# Altium schematic symbol library Componentes_base.SchLib: 431 symbols (part 9 of 12)
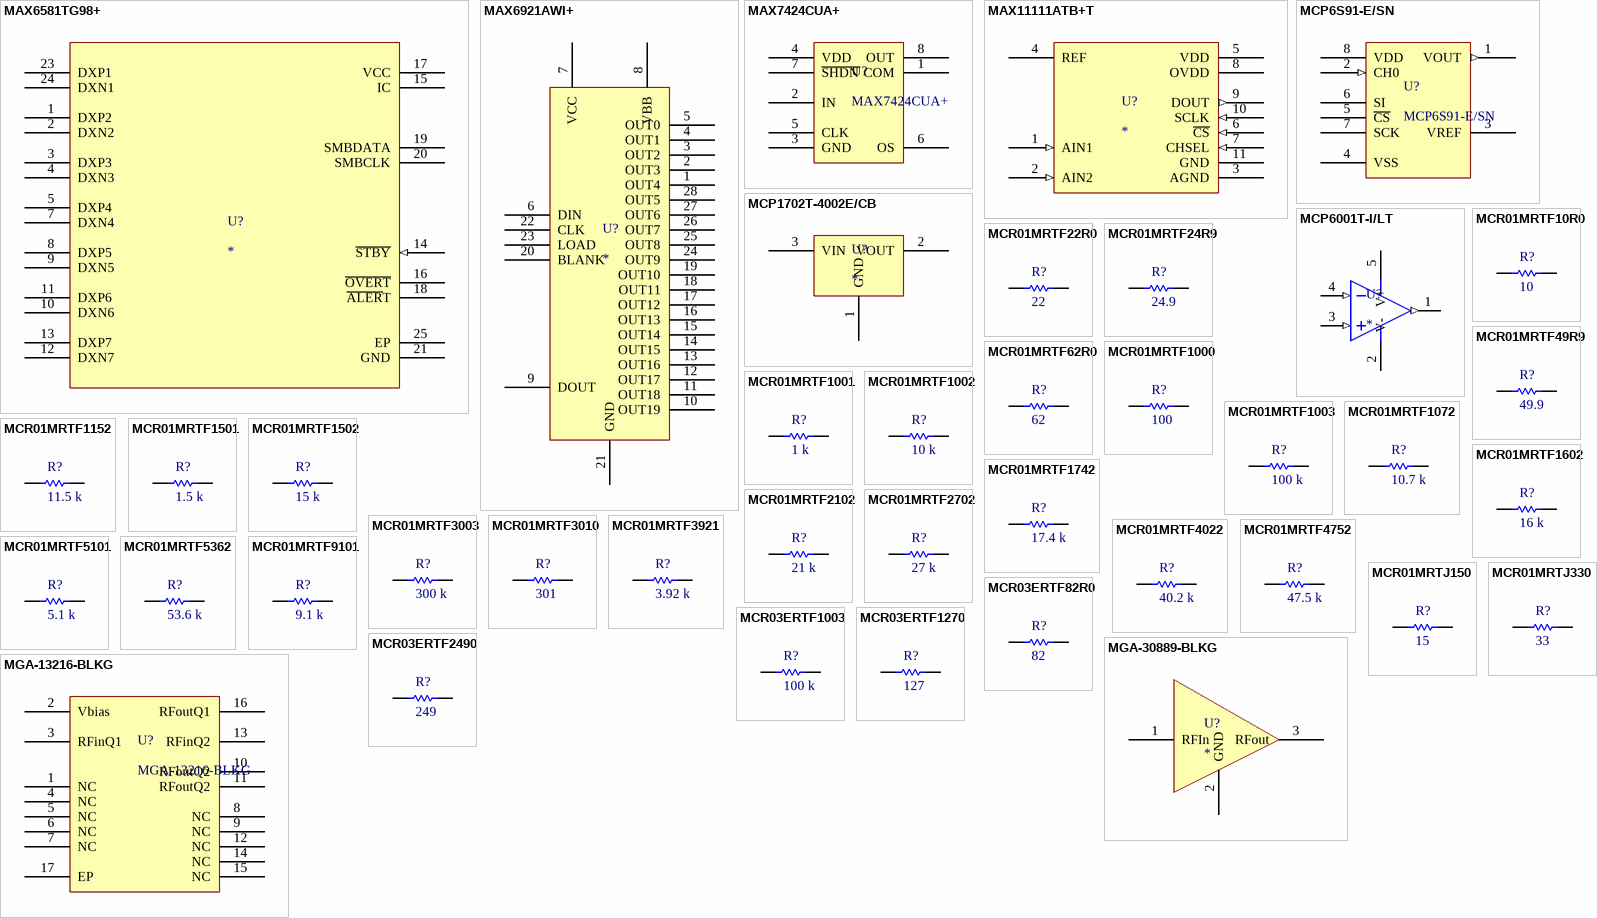
[diagram p22: symbols MAX6581TG98+ to MGA-30889-BLKG]

## MCR03ERTF1270
designator R?, comment 127
RES 127 OHM 1/10W 1% 0603 SMD; Manufacturer: Rohm Semiconductor; Manufacturer Part Number: MCR03ERTF1270; Power (Watts): 0.1W, 1/10W; Temperature Coefficient: ±100ppm/°C; Supplier 1: Digi-Key; Supplier Part Number 1: RHM127CFCT-ND; RoHS: RoHS Compliant; Category: Resistors; Stock 1: 2110; Pricing 1: 1=0.09, 10=0.01, 25=0.0072, 100=0.0041, 250=0.00312, 500=0.00252, 1000=0.00185 (EUR); Packaging: Cut Tape (CT); Resistance (Ohms): 127; Tolerance: ±1%; Composition: Thick Film; Features: -; Operating Temperature: -55°C ~ 155°C; Package / Case: 0603 (1608 Metric); Supplier Device Package: 0603 (1608 Metric); Size / Dimension: 0.063" L x 0.031" W (1.60mm x 0.80mm); Height: 0.022" (0.55mm); Number of Terminations: 2; ComponentLink1URL: http://rohmfs.rohm.com/en/products/databook/datasheet/passive/resistor/chip_resistor/mcr_g.pdf; ComponentLink1Description: http://rohmfs.rohm.com/en/products/databook/datasheet/passive/resistor/chip_resistor/mcr_g.pdf
footprint RESC1005X04L (Chip Resistor, 2-Leads, Body 1,00x0,50mm, IPC High Density)
pins: 1, 2

## MCR03ERTF2490
designator R?, comment 249
RES 249 OHM 1/10W 1% 0603 SMD; Manufacturer: Rohm Semiconductor; Manufacturer Part Number: MCR03ERTF2490; Power (Watts): 0.1W, 1/10W; Temperature Coefficient: ±100ppm/°C; Supplier 1: Digi-Key; Supplier Part Number 1: RHM249CFCT-ND; RoHS: RoHS Compliant; Category: Resistors; Stock 1: 29192; Pricing 1: 1=0.09, 10=0.01, 25=0.0072, 100=0.0041, 250=0.00312, 500=0.00252, 1000=0.00185 (EUR); Packaging: Cut Tape (CT); Resistance (Ohms): 249; Tolerance: ±1%; Composition: Thick Film; Features: -; Operating Temperature: -55°C ~ 155°C; Package / Case: 0603 (1608 Metric); Supplier Device Package: 0603 (1608 Metric); Size / Dimension: 0.063" L x 0.031" W (1.60mm x 0.80mm); Height: 0.022" (0.55mm); Number of Terminations: 2; ComponentLink1URL: http://rohmfs.rohm.com/en/products/databook/datasheet/passive/resistor/chip_resistor/mcr_g.pdf; ComponentLink1Description: http://rohmfs.rohm.com/en/products/databook/datasheet/passive/resistor/chip_resistor/mcr_g.pdf
pins: 1, 2

## MGA-13216-BLKG
designator U?
IC AMP LNA GAAS MMIC 16QFN; Manufacturer: Broadcom Limited; Frequency: 1.5GHz ~ 2.5GHz; P1dB: 23.6dB; Gain: 35.8dB; Noise Figure: 0.61dB; RF Type: CDMA, GSM, WCDMA; Voltage - Supply: 5V; Current - Supply: 122mA; Test Frequency: 1.95GHz; Supplier 1: Digi-Key; Manufacturer Part Number: MGA-13216-BLKG; RoHS: RoHS Compliant; Category: RF/IF and RFID; Stock 1: 9; Pricing 1: 1=5.28, 10=4.748, 100=3.8899, 500=3.31134, 1000=2.7927, 2500=2.65306 (EUR); Packaging: Cut Strip; Part Status: Active; Package / Case: 16-VQFN Exposed Pad; Supplier Device Package: 16-QFN (4x4); ComponentLink1URL: https://docs.broadcom.com/docs/AV02-2878EN; ComponentLink1Description: https://docs.broadcom.com/docs/AV02-2878EN; Supplier Part Number 1: 516-3079-ND
footprint QFN65P400X400X86_HS-17N-Avago (QFN, 16-Leads, Body 4,00x4,00mm, Pitch 0,65mm, Thermal Pad 2,70x2,70mm, IPC Medium Density)
pins: 1 NC, 2 Vbias, 3 RFinQ1, 4 NC, 5 NC, 6 NC, 7 NC, 8 NC, 9 NC, 10 RFoutQ2, 11 RFoutQ2, 12 NC, 13 RFinQ2, 14 NC, 15 NC, 16 RFoutQ1, 17 EP

## MGA-30889-BLKG
designator U?
RF Amplifier 37dBm Gain Block Low Band; Manufacturer: Avago Technologies; Manufacturer Part Number: MGA-30889-BLKG; Operating Frequency: 40 MHz to 2.6 GHz; Gain: 15.7 dB; NF - Noise Figure: 2 dB; OIP3 - Third Order Intercept: 36 dBm; Operating Supply Current: 65 mA; Operating Supply Voltage: 5 V; P1dB - Compression Point: 20.3 dBm; Pd - Power Dissipation: 470 mW; Test Frequency: 1.95 GHz; Frequency: 40MHz ~ 2.6GHz; P1dB: 20.3dBm (107.2mW); Noise Figure: 2dB; RF Type: General Purpose; Voltage - Supply: 5V; Current - Supply: 65mA; Supplier 1: Mouser; RoHS: RoHS Compliant; Category: RF Amplifier; Stock 1: 0; Pricing 1: 1=2.74, 10=2.20, 100=1.86, 200=1.81, 500=1.62, 1000=1.36, 2000=1.33 (EUR); Package/Case: SOT-89-3; Packaging: Cut Tape; Type: Gain Block Amplifier; Brand: Avago Technologies; Mounting Style: SMD/SMT; Maximum Operating Temperature: + 150 C; Product Category: RF-Amplifier; Standard Pack Qty: 100; RoHS - Mouser: Y; Minimum Order Quantity: 1; Reeling: False; ComponentLink1URL: http://www.mouser.com/ds/2/38/AV02-2250EN_DS_MGA-30889_2013-11-11-476270.pdf; ComponentLink1Description: http://www.mouser.com/ds/2/38/AV02-2250EN_DS_MGA-30889_2013-11-11-476270.pdf; Supplier 2: Digi-Key; Stock 2: 1977; Pricing 2: 1=2.78, 10=2.5, 25=2.3672 (EUR); Package / Case: TO-243AA; Supplier Device Package: SOT-89-3; ComponentLink2URL: http://www.avagotech.com/docs/AV02-2250EN; ComponentLink2Description: http://www.avagotech.com/docs/AV02-2250EN; Supplier Part Number 1: 630-MGA-30889-BLKG; Supplier Part Number 2: 516-2445-1-ND
footprint SOT89-150P409X160-3L (SOT89, 3-Leads, Body 4,50x2,45mm, Pitch 1,50mm, Lead Span 4,1mm, IPC High Density)
pins: 1 RFIn, 2 GND, 3 RFout

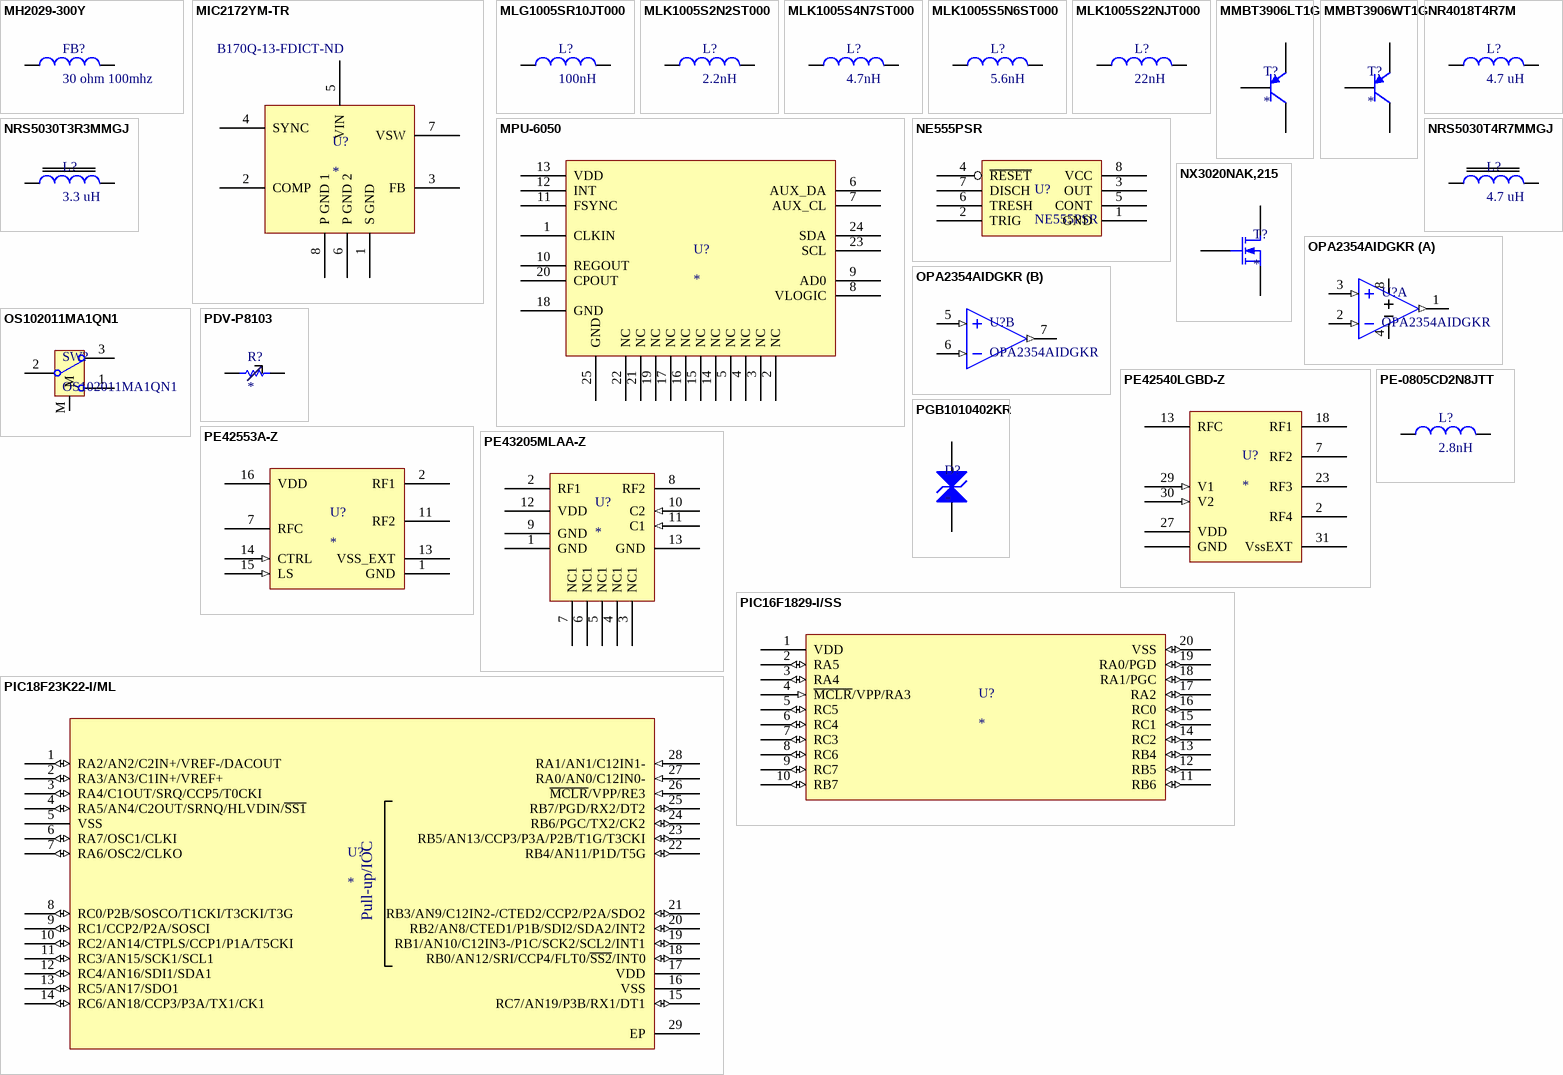
[diagram p9: symbols MH2029-300Y to PIC18F23K22-I/ML]

## MH2029-300Y
designator FB?, comment 30 ohm 100mhz
FERRITE BEAD 30 OHM 0805 1LN; Manufacturer: Bourns Inc.; Manufacturer Part Number: MH2029-300Y; Filter Type: Power, Signal Line; Number of Lines: 1; Impedance @ Frequency: 30 Ohm @ 100MHz; Current Rating (Max): 3A; DC Resistance (DCR) (Max): 25 mOhm; Supplier 1: Digi-Key; RoHS: RoHS Compliant; Category: Filters; Stock 1: 66775; Pricing 1: 1=0.09, 10=0.058, 25=0.0532, 50=0.0476, 100=0.0351, 250=0.02548, 500=0.02336, 1000=0.02017 (EUR); Packaging: Cut Tape (CT); Part Status: Active; Ratings: -; Operating Temperature: -55°C ~ 125°C; Package / Case: 0805 (2012 Metric); Mounting Type: Surface Mount; Height (Max): 0.043" (1.10mm); Size / Dimension: 0.079" L x 0.047" W (2.00mm x 1.20mm); ComponentLink1URL: http://www.bourns.com/docs/Product-Datasheets/mh.pdf; ComponentLink1Description: http://www.bourns.com/docs/Product-Datasheets/mh.pdf; Supplier Part Number 1: MH2029-300YCT-ND
footprint 0805 Ind (Chip Capacitor, 2-Leads, Body 2,00x1,25mm, IPC Medium Density)
pins: 1, 2

## MIC2172YM-TR
designator U?  Supplier Part Number 1: B170Q-13-FDICT-ND
IC REG MULT CONFIG INV ISO 8SOIC; Manufacturer: Diodes Incorporated; Manufacturer Part Number: B170Q-13-F; Diode Type: Schottky; Voltage - DC Reverse (Vr) (Max): 70V; Current - Average Rectified (Io): 1A; Voltage - Forward (Vf) (Max) @ If: 790mV @ 1A; Speed: Fast Recovery =< 500ns, > 200mA (Io); Capacitance @ Vr, F: 80pF @ 4V, 1MHz; Supplier 1: Digi-Key; RoHS: RoHS Compliant; Category: Discrete Semiconductor Products; Stock 1: 4978; Pricing 1: 1=0.34, 10=0.278, 100=0.1897, 500=0.14222, 1000=0.10666 (EUR); Packaging: Cut Tape (CT); Part Status: Active; Reverse Recovery Time (trr): -; Current - Reverse Leakage @ Vr: -; Mounting Type: Surface Mount; Package / Case: DO-214AC, SMA; Supplier Device Package: SMA; Operating Temperature - Junction: -65°C ~ 155°C; ComponentLink1URL: http://www.diodes.com/_files/datasheets/B170Q-B1100Q.pdf; ComponentLink1Description: http://www.diodes.com/_files/datasheets/B170Q-B1100Q.pdf
footprint SOIC127P600X175-8L R-PDSO-G8 (SOIC, 8-Leads, Body 4,90x3,90mm, Pitch 1,27mm, IPC High Density)
pins: 1 S GND, 2 COMP, 3 FB, 4 SYNC, 5 VIN, 6 P GND 2, 7 VSW, 8 P GND 1

## MLG1005SR10JT000
designator L?, comment 100nH
FIXED IND 100NH 200MA 2 OHM SMD; Manufacturer: TDK Corporation; Manufacturer Part Number: MLG1005SR10JT000; Type: Multilayer; Material - Core: Non-Magnetic; Tolerance: ±5%; Shielding: Unshielded; DC Resistance (DCR): 2 Ohm Max; Q @ Freq: 8 @ 100MHz; Frequency - Self Resonant: 700MHz; Supplier 1: Digi-Key; RoHS: RoHS Compliant; Category: Inductors, Coils, Chokes; Stock 1: 17764; Pricing 1: 1=0.09, 10=0.046, 100=0.0303, 500=0.02524, 1000=0.02119, 2500=0.01817 (EUR); Packaging: Cut Tape (CT); Part Status: Active; Inductance: 100nH; Current Rating: 200mA; Current - Saturation: -; Ratings: -; Operating Temperature: -55°C ~ 125°C; Mounting Type: Surface Mount; Package / Case: 0402 (1005 Metric); Supplier Device Package: 0402 (1005 Metric); Size / Dimension: 0.039" L x 0.020" W (1.00mm x 0.50mm); Height - Seated (Max): 0.022" (0.55mm); ComponentLink1URL: https://product.tdk.com/info/en/catalog/datasheets/inductor_commercial_high-frequency_mlg1005s_en.pdf; ComponentLink1Description: https://product.tdk.com/info/en/catalog/datasheets/inductor_commercial_high-frequency_mlg1005s_en.pdf; Supplier Part Number 1: 445-3071-1-ND
footprint INDC1005X06L (Chip Inductor, 2-Leads, Body 1,00x0,50mm, IPC High Density)
pins: 1, 2

## MLK1005S2N2ST000
designator L?, comment 2.2nH
FIXED IND 2.2NH 500MA 180 MOHM; Manufacturer: TDK Corporation; Manufacturer Part Number: MLK1005S2N2ST000; Type: Multilayer; Material - Core: Non-Magnetic; Tolerance: ±0.3nH; Shielding: Unshielded; DC Resistance (DCR): 180 mOhm Max; Q @ Freq: 6 @ 100MHz; Frequency - Self Resonant: 8GHz; Resistance (Ohms): 180; Power (Watts): 0.1W, 1/10W; Temperature Coefficient: ±200ppm/°C; Supplier 1: Digi-Key; RoHS: RoHS Compliant; Category: Inductors, Coils, Chokes; Stock 1: 20000; Pricing 1: 10000=0.01404, 30000=0.0136, 50000=0.01316, 100000=0.01273 (EUR); Packaging: Tape & Reel (TR); Part Status: Active; Inductance: 2.2nH; Current Rating: 500mA; Current - Saturation: -; Ratings: -; Operating Temperature: -55°C ~ 125°C; Mounting Type: Surface Mount; Package / Case: 0402 (1005 Metric); Supplier Device Package: 0402 (1005 Metric); Size / Dimension: 0.039" L x 0.020" W (1.00mm x 0.50mm); Height - Seated (Max): 0.024" (0.60mm); ComponentLink1URL: https://product.tdk.com/info/en/catalog/datasheets/inductor_commercial_high-frequency_mlk1005_en.pdf; ComponentLink1Description: https://product.tdk.com/info/en/catalog/datasheets/inductor_commercial_high-frequency_mlk1005_en.pdf; Supplier Part Number 1: 445-1459-2-ND; Composition: Thick Film; Features: Automotive AEC-Q200; Failure Rate: -; ComponentLink2URL: http://industrial.panasonic.com/www-cgi/jvcr13pz.cgi?E+PZ+3+AOA0001+ERJ2GEJ181X+7+WW; ComponentLink2Description: http://industrial.panasonic.com/www-cgi/jvcr13pz.cgi?E+PZ+3+AOA0001+ERJ2GEJ181X+7+WW
footprint RESC1005X04L (Chip Resistor, 2-Leads, Body 1,00x0,50mm, IPC High Density)
pins: 1, 2

## MLK1005S4N7ST000
designator L?, comment 4.7nH
FIXED IND 4.7NH 400MA 280 MOHM; Manufacturer: TDK Corporation; Manufacturer Part Number: MLK1005S4N7ST000; Type: Multilayer; Material - Core: Non-Magnetic; Tolerance: ±0.3nH; Shielding: Unshielded; DC Resistance (DCR): 280 mOhm Max; Q @ Freq: 7 @ 100MHz; Frequency - Self Resonant: 6GHz; Supplier 1: Digi-Key; RoHS: RoHS Compliant; Category: Inductors, Coils, Chokes; Stock 1: 43793; Pricing 1: 1=0.09, 10=0.046, 100=0.0303, 500=0.02524, 1000=0.02119, 2500=0.01817 (EUR); Packaging: Cut Tape (CT); Part Status: Active; Inductance: 4.7nH; Current Rating: 400mA; Current - Saturation: -; Ratings: -; Operating Temperature: -55°C ~ 125°C; Mounting Type: Surface Mount; Package / Case: 0402 (1005 Metric); Supplier Device Package: 0402 (1005 Metric); Size / Dimension: 0.039" L x 0.020" W (1.00mm x 0.50mm); Height - Seated (Max): 0.024" (0.60mm); ComponentLink1URL: https://product.tdk.com/info/en/catalog/datasheets/inductor_commercial_high-frequency_mlk1005_en.pdf; ComponentLink1Description: https://product.tdk.com/info/en/catalog/datasheets/inductor_commercial_high-frequency_mlk1005_en.pdf; Supplier Part Number 1: 445-1463-1-ND
footprint INDC1005X06L (Chip Inductor, 2-Leads, Body 1,00x0,50mm, IPC High Density)
pins: 1, 2

## MLK1005S5N6ST000
designator L?, comment 5.6nH
FIXED IND 5.6NH 400MA 300 MOHM; Manufacturer: TDK Corporation; Manufacturer Part Number: MLK1005S5N6ST000; Type: Multilayer; Material - Core: Non-Magnetic; Tolerance: ±0.3nH; Shielding: Unshielded; DC Resistance (DCR): 300 mOhm Max; Q @ Freq: 7 @ 100MHz; Frequency - Self Resonant: 5.7GHz; Supplier 1: Digi-Key; RoHS: RoHS Compliant; Category: Inductors, Coils, Chokes; Stock 1: 426961; Pricing 1: 1=0.09, 10=0.046, 100=0.0303, 500=0.02524, 1000=0.02119, 2500=0.01817 (EUR); Packaging: Cut Tape (CT); Part Status: Active; Inductance: 5.6nH; Current Rating: 400mA; Current - Saturation: -; Ratings: -; Operating Temperature: -55°C ~ 125°C; Mounting Type: Surface Mount; Package / Case: 0402 (1005 Metric); Supplier Device Package: 0402 (1005 Metric); Size / Dimension: 0.039" L x 0.020" W (1.00mm x 0.50mm); Height - Seated (Max): 0.024" (0.60mm); ComponentLink1URL: https://product.tdk.com/info/en/catalog/datasheets/inductor_commercial_high-frequency_mlk1005_en.pdf; ComponentLink1Description: https://product.tdk.com/info/en/catalog/datasheets/inductor_commercial_high-frequency_mlk1005_en.pdf; Supplier Part Number 1: 445-8651-1-ND
footprint INDC1005X06L (Chip Inductor, 2-Leads, Body 1,00x0,50mm, IPC High Density)
pins: 1, 2

## MLK1005S22NJT000
designator L?, comment 22nH
FIXED IND 22NH 200MA 700 MOHM
footprint RESC1005X04L (Chip Resistor, 2-Leads, Body 1,00x0,50mm, IPC High Density)
pins: 1, 2

## MMBT3906LT1G
designator T?
Transistors Bipolar - BJT 200mA 40V PNP; Manufacturer: ON Semiconductor; Manufacturer Part Number: MMBT3906LT1G; Collector- Base Voltage VCBO: - 40 V; Configuration: Single; Emitter- Base Voltage VEBO: 5 V; Collector-Emitter Saturation Voltage: - 0.4 V; DC Collector/Base Gain hFE Min: 60; Gain Bandwidth Product fT: 250 MHz; Maximum DC Collector Current: 0.2 A; Maximum Power Dissipation: 225 mW; Vce Saturation (Max) @ Ib, Ic: 400mV @ 5mA, 50mA; DC Current Gain (hFE) (Min) @ Ic, Vce: 100 @ 10mA, 1V; Power - Max: 300mW; Frequency - Transition: 250MHz; Supplier 1: Mouser; Supplier Part Number 1: 863-MMBT3906LT1G; RoHS: RoHS Compliant; Category: Transistors Bipolar - BJT; Stock 1: 146718; Pricing 1: 1=0.095, 10=0.087, 100=0.030, 1000=0.021, 3000=0.016, 9000=0.014, 24000=0.012, 45000=0.010, 99000=0.009 (EUR); Collector- Emitter Voltage VCEO Max: - 40 V; Package/Case: SOT-23-3; Packaging: Reel; Series: MMBT3906L; Brand: ON Semiconductor; Mounting Style: SMD/SMT; Transistor Polarity: PNP; Maximum Operating Temperature: + 150 C; Minimum Operating Temperature: - 55 C; Product Category: Transistors Bipolar- General Purpose; Standard Pack Qty: 3000; RoHS - Mouser: Y; Minimum Order Quantity: 1; Reeling: True; ComponentLink1URL: http://www.onsemi.com/pub/Collateral/MMBT3906LT1-D.PDF; ComponentLink1Description: http://www.onsemi.com/pub/Collateral/MMBT3906LT1-D.PDF; Supplier 2: Digi-Key; Supplier Part Number 2: MMBT3906LT1GOSCT-ND; Stock 2: 53767; Pricing 2: 1=0.11, 10=0.097, 25=0.0884, 100=0.0636, 250=0.03748, 500=0.0311, 1000=0.02121 (EUR); Transistor Type: PNP; Current - Collector (Ic) (Max): 200mA; Voltage - Collector Emitter Breakdown (Max): 40V; Current - Collector Cutoff (Max): -; Mounting Type: Surface Mount; Package / Case: TO-236-3, SC-59, SOT-23-3; Supplier Device Package: SOT-23-3 (TO-236); ComponentLink2URL: http://www.onsemi.com/pub_link/Collateral/MMBT3906LT1-D.PDF; ComponentLink2Description: http://www.onsemi.com/pub_link/Collateral/MMBT3906LT1-D.PDF
footprint SOT95P230X110-3N (SOT23, 3-Leads, Body 2,90x2,30mm, Pitch 0,95mm, IPC Medium Density)
pins: 1 B, 2 E, 3 C

## MMBT3906WT1G
designator T?
Transistors Bipolar - BJT 200mA 40V PNP; Manufacturer: ON Semiconductor; Manufacturer Part Number: MMBT3906WT1G; Collector- Base Voltage VCBO: - 40 V; Configuration: Single; Emitter- Base Voltage VEBO: 5 V; Collector-Emitter Saturation Voltage: - 0.4 V; DC Collector/Base Gain hFE Min: 60; Gain Bandwidth Product fT: 250 MHz; Maximum DC Collector Current: 0.2 A; Maximum Power Dissipation: 150 mW; Vce Saturation (Max) @ Ib, Ic: 400mV @ 5mA, 50mA; DC Current Gain (hFE) (Min) @ Ic, Vce: 100 @ 10mA, 1V; Power - Max: 150mW; Frequency - Transition: 250MHz; Supplier 1: Mouser; Supplier Part Number 1: 863-MMBT3906WT1G; RoHS: RoHS Compliant; Category: Transistors Bipolar - BJT; Stock 1: 23563; Pricing 1: 1=0.147, 10=0.121, 100=0.042, 1000=0.029, 3000=0.022, 9000=0.019, 24000=0.017, 45000=0.015, 99000=0.013 (EUR); Collector- Emitter Voltage VCEO Max: - 40 V; Package/Case: SC-70-3; Packaging: Reel; Series: MMBT3906W; Brand: ON Semiconductor; Mounting Style: SMD/SMT; Transistor Polarity: PNP; Maximum Operating Temperature: + 150 C; Minimum Operating Temperature: - 55 C; Product Category: Transistors Bipolar- General Purpose; Standard Pack Qty: 3000; RoHS - Mouser: Y; Minimum Order Quantity: 1; Reeling: True; ComponentLink1URL: http://www.mouser.com/ds/2/308/MMBT3904WT1-D-110229.pdf; ComponentLink1Description: http://www.mouser.com/ds/2/308/MMBT3904WT1-D-110229.pdf; Supplier 2: Digi-Key; Supplier Part Number 2: MMBT3906WT1GOSCT-ND; Stock 2: 38938; Pricing 2: 1=0.15, 10=0.136, 25=0.1236, 100=0.0889, 250=0.05236, 500=0.04344, 1000=0.02963 (EUR); Transistor Type: PNP; Current - Collector (Ic) (Max): 200mA; Voltage - Collector Emitter Breakdown (Max): 40V; Current - Collector Cutoff (Max): -; Mounting Type: Surface Mount; Package / Case: SC-70, SOT-323; Supplier Device Package: SC-70-3 (SOT323); ComponentLink2URL: http://www.onsemi.com/pub_link/Collateral/MMBT3904WT1-D.PDF; ComponentLink2Description: http://www.onsemi.com/pub_link/Collateral/MMBT3904WT1-D.PDF
footprint SC70P220X100-3L (SC70 3-Leads, Body 2,00x2,20mm, Pitch 0,95mm, IPC High Density)
pins: 1 B, 2 E, 3 C

## MPU-6050
designator U?
IMU ACCEL/GYRO 3-AXIS I2C 24QFN; Manufacturer: InvenSense; Sensor Type: Accelerometer, Gyroscope, 3 Axis; Output Type: I²C; Supplier 1: Digi-Key; Manufacturer Part Number: MPU-6050; RoHS: RoHS Compliant; Category: Sensors, Transducers; Stock 1: 11444; Pricing 1: 1=7.78, 5=6.82, 10=6.139, 25=5.4568, 50=5.0474, 100=4.3654, 500=4.09258, 1000=3.81974 (EUR); Part Status: Not For New Designs; Operating Temperature: -40°C ~ 85°C (TA); ComponentLink1URL: http://store.invensense.com/datasheets/invensense/MPU-6050_DataSheet_V3%204.pdf; ComponentLink1Description: http://store.invensense.com/datasheets/invensense/MPU-6050_DataSheet_V3%204.pdf; Supplier Part Number 1: 1428-1007-1-ND
footprint QFN50P400X400 (QFN, 24-Leads, Body 4,00x4,00mm, Pitch 0,50mm, Thermal Pad 2,20x2,20mm, IPC Medium Density)
pins: 1 CLKIN, 2 NC, 3 NC, 4 NC, 5 NC, 6 AUX_DA, 7 AUX_CL, 8 VLOGIC, 9 AD0, 10 REGOUT, 11 FSYNC, 12 INT, 13 VDD, 14 NC, 15 NC, 16 NC, 17 NC, 18 GND, 19 NC, 20 CPOUT, 21 NC, 22 NC, 23 SCL, 24 SDA, 25 GND

## NE555PSR
designator U?
Standard Timer Single 8-Pin SOP T/R; Manufacturer: Texas Instruments; EDA / CAD Models: Download from Accelerated Designs; Frequency: 100kHz; Voltage - Supply: 4.5 V ~ 16 V; Current - Supply: 10mA; Online Catalog: Programmable Timers and Oscillators; Other Names: 296-6502-6; Supplier 1: Digi-Key; Manufacturer Part Number: NE555PSR; Stock 1: 7867; Pricing 1: 1=0.4, 10=0.324, 100=0.2208, 500=0.1656, 1000=0.1242 (USD); Standard Package: 1; Category: Integrated Circuits (ICs); Family: Clock/Timing - Programmable Timers and Oscillators; Packaging: Digi-Reel®; Type: 555 Type, Timer/Oscillator (Single); Operating Temperature: 0°C ~ 70°C; Package / Case: 8-SOIC (0.209", 5.30mm Width); Supplier Device Package: 8-SO; Mounting Type: Surface Mount; ComponentLink1URL: https://datasheet.ciiva.com/1592/1764032-1592896.pdf; ComponentLink1Description: https://datasheet.ciiva.com/1592/1764032-1592896.pdf; ComponentLink2URL: https://datasheet.ciiva.com/15152/getdatasheetpartid-205715-15152614.pdf; ComponentLink2Description: https://datasheet.ciiva.com/15152/getdatasheetpartid-205715-15152614.pdf; ComponentLink3URL: https://datasheet.ciiva.com/6666/ne555-6666842.pdf; ComponentLink3Description: https://datasheet.ciiva.com/6666/ne555-6666842.pdf; ComponentLink4URL: https://datasheet.ciiva.com/6666/ne555-6666844.pdf; ComponentLink4Description: https://datasheet.ciiva.com/6666/ne555-6666844.pdf; ComponentLink5URL: https://datasheet.ciiva.com/14273/se555m-14273677.pdf; ComponentLink5Description: https://datasheet.ciiva.com/14273/se555m-14273677.pdf; ComponentLink6URL: https://datasheet.ciiva.com/6666/ne555-6666846.pdf; ComponentLink6Description: https://datasheet.ciiva.com/6666/ne555-6666846.pdf; Supplier Part Number 1: 296-6502-1-ND
footprint SOIC127P600X175-8L R-PDSO-G8 (SOIC, 8-Leads, Body 4,90x3,90mm, Pitch 1,27mm, IPC High Density)
pins: 1 GND, 2 TRIG, 3 OUT, 4 ~{RESET}, 5 CONT, 6 TRESH, 7 DISCH, 8 VCC

## NR4018T4R7M
designator L?, comment 4.7 uH
FIXED IND 4.7UH 1.2A 108 MOHM; Manufacturer: Taiyo Yuden; Manufacturer Part Number: NR4018T4R7M; Type: Wirewound; Material - Core: Ferrite; Inductance: 4.7µH; Tolerance: ±20%; Current - Saturation: 1.7A; Shielding: Shielded; DC Resistance (DCR): 108 mOhm Max; Frequency - Self Resonant: 34MHz; Frequency - Test: 100kHz; Supplier 1: Digi-Key; RoHS: RoHS Compliant; Category: Inductors, Coils, Chokes; Stock 1: 63364; Pricing 1: 1=0.3, 10=0.263, 25=0.2304, 50=0.1976, 100=0.1811, 250=0.16468, 500=0.1548, 1000=0.11858 (EUR); Packaging: Cut Tape (CT); Part Status: Active; Current Rating: 1.2A; Q @ Freq: -; Ratings: -; Operating Temperature: -25°C ~ 120°C; Mounting Type: Surface Mount; Package / Case: Nonstandard; Supplier Device Package: -; Size / Dimension: 0.157" L x 0.157" W (4.00mm x 4.00mm); Height - Seated (Max): 0.071" (1.80mm); ComponentLink1URL: http://ds.yuden.co.jp/TYCOMPAS/ut/detail.do?productNo=NR4018T4R7M&fileName=NR4018T4R7M_SS&mode=specSheetDownload; ComponentLink1Description: http://ds.yuden.co.jp/TYCOMPAS/ut/detail.do?productNo=NR4018T4R7M&fileName=NR4018T4R7M_SS&mode=specSheetDownload; Supplier Part Number 1: 587-1671-1-ND
footprint INDP4040X18N- NR4018T Taiyo
pins: 1, 2

## NRS5030T3R3MMGJ
designator L?, comment 3.3 uH
FIXED IND 3.3UH 3A 30 MOHM SMD; Manufacturer: Taiyo Yuden; Manufacturer Part Number: NRS5030T3R3MMGJ; Self Resonant Frequency: 36 MHz; Shielding: Unshielded; Tolerance: 20 %; Type: SMD Power Inductors; Case Height: 3 mm; Case Length: 4.9 mm; Test Frequency: 100 kHz; Product Status: New at Mouser; Current - Saturation: 3.6A; DC Resistance (DCR): 30 mOhm; Frequency - Self Resonant: 36MHz; Frequency - Test: 100kHz; Supplier 1: Mouser; Supplier Part Number 1: 963-NRS5030T3R3MMGJ; RoHS: RoHS Compliant; Category: Fixed Inductors; Stock 1: 9558; Pricing 1: 1=0.337, 10=0.296, 100=0.276, 500=0.119, 1000=0.111, 2500=0.101, 5000=0.097, 25000=0.096 (EUR); Inductance: 3.3 uH; Maximum DC Resistance: 30 mOhms; Operating Temperature Range: - 25 C to + 125 C; Package/Case: 5030; Packaging: Reel; Product: SMD Power Inductors; Series: NRS; Termination Style: SMD/SMT; Brand: Taiyo Yuden; Case Width: 4.9 mm; Standard Pack Qty: 500; RoHS - Mouser: Y; Minimum Order Quantity: 1; Reeling: True; ComponentLink1URL: http://www.yuden.co.jp/eu/product/category/inductor/NRS5030T3R3MMGJ.html; ComponentLink1Description: http://www.yuden.co.jp/eu/product/category/inductor/NRS5030T3R3MMGJ.html; Supplier 2: Digi-Key; Supplier Part Number 2: 587-3459-1-ND; Stock 2: 628; Pricing 2: 1=0.34, 10=0.32, 50=0.3002, 100=0.2802, 500=0.2202, 1000=0.18016, 5000=0.14413 (EUR); Material - Core: -; Current Rating: 3A; Q @ Freq: -; Operating Temperature: -25°C ~ 120°C; Mounting Type: Surface Mount; Package / Case: Nonstandard; Size / Dimension: 0.193" L x 0.193" W (4.90mm x 4.90mm); Height - Seated (Max): 0.122" (3.10mm); Supplier Device Package: -; ComponentLink2URL: http://www.yuden.co.jp/ut/product/category/inductor/NRS5030T3R3MMGJ.pdf; ComponentLink2Description: http://www.yuden.co.jp/ut/product/category/inductor/NRS5030T3R3MMGJ.pdf
footprint INDP4949X31N (Precision Wire Wound Inductor, 2-Leads, Body 4,90x4,90mm, IPC Medium Density)
pins: 1, 2

## NRS5030T4R7MMGJ
designator L?, comment 4.7 uH
FIXED IND 4.7UH 2.6A 35 MOHM SMD; Manufacturer: Taiyo Yuden; Manufacturer Part Number: NRS5030T4R7MMGJ; Self Resonant Frequency: 31 MHz; Shielding: Unshielded; Tolerance: 20 %; Type: SMD Power Inductors; Case Height: 3 mm; Case Length: 4.9 mm; Test Frequency: 100 kHz; Product Status: New at Mouser; Current - Saturation: 3.1A; DC Resistance (DCR): 35 mOhm; Frequency - Self Resonant: 31MHz; Frequency - Test: 100kHz; Supplier 1: Mouser; Supplier Part Number 1: 963-NRS5030T4R7MMGJ; RoHS: RoHS Compliant; Category: Fixed Inductors; Stock 1: 0; Pricing 1: 1=0.337, 10=0.296, 100=0.276, 500=0.119, 1000=0.111, 2500=0.101, 5000=0.097, 25000=0.096 (EUR); Inductance: 4.7 uH; Maximum DC Resistance: 35 mOhms; Operating Temperature Range: - 25 C to + 125 C; Package/Case: 5030; Packaging: Reel; Product: SMD Power Inductors; Series: NRS; Termination Style: SMD/SMT; Brand: Taiyo Yuden; Case Width: 4.9 mm; Standard Pack Qty: 500; RoHS - Mouser: Y; Minimum Order Quantity: 1; Reeling: True; ComponentLink1URL: http://www.yuden.co.jp/eu/product/category/inductor/NRS5030T4R7MMGJ.html; ComponentLink1Description: http://www.yuden.co.jp/eu/product/category/inductor/NRS5030T4R7MMGJ.html; Supplier 2: Digi-Key; Supplier Part Number 2: 587-3461-1-ND; Stock 2: 505; Pricing 2: 1=0.34, 10=0.32, 50=0.3002, 100=0.2802, 500=0.2202, 1000=0.18016, 5000=0.14413 (EUR); Material - Core: -; Current Rating: 2.6A; Q @ Freq: -; Operating Temperature: -25°C ~ 120°C; Mounting Type: Surface Mount; Package / Case: Nonstandard; Size / Dimension: 0.193" L x 0.193" W (4.90mm x 4.90mm); Height - Seated (Max): 0.122" (3.10mm); Supplier Device Package: -; ComponentLink2URL: http://www.yuden.co.jp/ut/product/category/inductor/NRS5030T4R7MMGJ.pdf; ComponentLink2Description: http://www.yuden.co.jp/ut/product/category/inductor/NRS5030T4R7MMGJ.pdf
footprint INDP4949X31N (Precision Wire Wound Inductor, 2-Leads, Body 4,90x4,90mm, IPC Medium Density)
pins: 1, 2

## NX3020NAK,215
designator T?
MOSFET NX3020NAK/TO-236AB/REELLP; Manufacturer: NXP Semiconductors; Manufacturer Part Number: NX3020NAK,215; Configuration: Single; Forward Transconductance - Min: 320 mS; Transistor Polarity: N-Channel; Channel Mode: Enhancement; Fall Time: 17 ns; Id - Continuous Drain Current: 200 mA; Pd - Power Dissipation: 1.06 W; Qg - Gate Charge: 0.34 nC; Rds On - Drain-Source Resistance: 2.7 Ohms; Rise Time: 5 ns; Typical Turn-Off Delay Time: 34 ns; Vds - Drain-Source Breakdown Voltage: 30 V; Vgs th - Gate-Source Threshold Voltage: 1.2 V; Product Status: New Product; FET Type: MOSFET N-Channel, Metal Oxide; FET Feature: Logic Level Gate; Drain to Source Voltage (Vdss): 30V; Current - Continuous Drain (Id) @ 25°C: 200mA (Ta); Rds On (Max) @ Id, Vgs: 4.5 Ohm @ 100mA, 10V; Vgs(th) (Max) @ Id: 1.5V @ 250A; Gate Charge (Qg) @ Vgs: 0.44nC @ 4.5V; Input Capacitance (Ciss) @ Vds: 48pF @ 10V; Power - Max: 300mW; Supplier 1: Mouser; Supplier Part Number 1: 771-NX3020NAK215; RoHS: RoHS Compliant; Category: MOSFET; Stock 1: 7471; Pricing 1: 1=0.182, 10=0.125, 100=0.052, 1000=0.035, 3000=0.027, 9000=0.022, 45000=0.020, 99000=0.017 (EUR); Package/Case: SOT-23-3; Packaging: Reel; Brand: NXP Semiconductors; Mounting Style: SMD/SMT; Maximum Operating Temperature: + 150 C; Minimum Operating Temperature: - 55 C; Standard Pack Qty: 3000; RoHS - Mouser: Y; Minimum Order Quantity: 1; Reeling: True; ComponentLink1URL: http://www.mouser.com/ds/2/302/NX3020NAK-268809.pdf; ComponentLink1Description: http://www.mouser.com/ds/2/302/NX3020NAK-268809.pdf; Supplier 2: Digi-Key; Supplier Part Number 2: 568-10504-1-ND; Stock 2: 4451; Pricing 2: 1=0.19, 10=0.176, 25=0.1264, 100=0.0984, 250=0.06176, 500=0.05266, 1000=0.03587 (EUR); Mounting Type: Surface Mount; Package / Case: TO-236-3, SC-59, SOT-23-3; Supplier Device Package: SOT-23 (TO-236AB); ComponentLink2URL: http://www.nxp.com/documents/data_sheet/NX3020NAK.pdf; ComponentLink2Description: http://www.nxp.com/documents/data_sheet/NX3020NAK.pdf
footprint SOT95P230X110-3N (SOT23, 3-Leads, Body 2,90x2,30mm, Pitch 0,95mm, IPC Medium Density)
pins: 1 G, 2 S, 3 D

## OPA2354AIDGKR
designator U?
IC OPAMP VFB 100MHZ RRO 8VSSOP; Manufacturer: Texas Instruments; Amplifier Type: Voltage Feedback; Output Type: Rail-to-Rail; Slew Rate: 150 V/µs; -3db Bandwidth: 250MHz; Current - Supply: 4.9mA; Voltage - Supply, Single/Dual (±): 2.5 V ~ 5.5 V, ±1.25 V ~ 2.75 V; Tolerance: ±10%; Voltage - Rated: 50V; Temperature Coefficient: X7R; Supplier 1: Digi-Key; Manufacturer Part Number: OPA2354AIDGKR; RoHS: RoHS Compliant; Category: Integrated Circuits (ICs); Stock 1: 5751; Pricing 1: 1=2.24, 10=2.013, 100=1.6494, 500=1.4041, 1000=1.18418 (EUR); Packaging: Cut Tape (CT); Part Status: Active; Operating Temperature: -40°C ~ 125°C; Mounting Type: Surface Mount; Package / Case: 8-TSSOP, 8-MSOP (0.118", 3.00mm Width); Supplier Device Package: 8-VSSOP; ComponentLink1URL: http://www.ti.com/lit/ds/symlink/opa354.pdf; ComponentLink1Description: http://www.ti.com/lit/ds/symlink/opa354.pdf; Supplier Part Number 1: 296-12642-1-ND; Features: -; Ratings: -; Applications: General Purpose; Failure Rate: -; Size / Dimension: 0.024" L x 0.012" W (0.60mm x 0.30mm); Height - Seated (Max): -; Thickness (Max): 0.013" (0.33mm); Lead Spacing: -; Lead Style: -; ComponentLink2URL: http://www.yageo.com/documents/recent/UPY-GPHC_X7R_6.3V-to-50V_18.pdf; ComponentLink2Description: http://www.yageo.com/documents/recent/UPY-GPHC_X7R_6.3V-to-50V_18.pdf
footprint MSOP-8 (TSOP, 8-Leads, Body 3,00x3,00mm, Pitch 0,65mm, IPC Medium Density)
part A pins: 1 OUTA (out), 2 IN-A (in), 3 IN+A (in), 4 V- (power), 8 V+ (power)
part B pins: 5 IN+B (in), 6 IN-B (in), 7 OUTB (out)

## OS102011MA1QN1
designator SW?
SWITCH SLIDE SPDT 100MA 12V; Manufacturer: C&K; Contact Timing: Non-Shorting (BBM); Switch Function: On-On; Current Rating: 100mA (DC); Actuator Type: Standard; Actuator Length: 4.00mm; Actuator Material: Polyoxymethylene (Acetal) (POM); Switch Travel: 2.00mm; Mechanical Life: 10,000 Cycles; Supplier 1: Digi-Key; Manufacturer Part Number: OS102011MA1QN1; RoHS: RoHS Compliant; Category: Switches; Stock 1: 9824; Pricing 1: 1=0.34, 10=0.323, 25=0.316, 50=0.2824, 100=0.2689, 250=0.26216, 500=0.22182, 1000=0.2151, 5000=0.18821 (EUR); Packaging: Bulk; Part Status: Active; Circuit: SPDT; Voltage Rating - AC: -; Voltage Rating - DC: 12V; Contact Material: Copper Alloy; Contact Finish: Silver; Mounting Type: Through Hole, Right Angle; Termination Style: PC Pin; Features: Epoxy Sealed Terminals; Operating Temperature: -30°C ~ 70°C; Electrical Life: 10,000 Cycles; Operating Force: -; ComponentLink1URL: http://www.ckswitches.com/media/1428/os.pdf; ComponentLink1Description: http://www.ckswitches.com/media/1428/os.pdf; Supplier Part Number 1: CKN9559-ND
footprint OS102011MA1QN1
pins: 1, 2, 3, M (power)

## PDV-P8103
designator R?
PHOTOCELL 16-33KOHM
footprint HEADER-1X2
pins: 1, 2

## PE42540LGBD-Z
designator U?
RF SWITCH ABSORPTIVE SP4T 32LGA; Manufacturer: Peregrine Semiconductor; Manufacturer Part Number: PE42540LGBD-Z; Frequency - Lower: 10MHz; Frequency - Upper: 8GHz; Isolation @ Frequency: 45dB @ 3GHz (typ); Insertion Loss @ Frequency: 0.8dB @ 3GHz; IIP3: 58dBm (typ); P1dB: 33dBm (typ) IP1dB; Impedance: 50 Ohm; Voltage - Supply: 3 V ~ 3.55 V; RF Type: ATE; Supplier 1: Digi-Key; RoHS: RoHS Compliant; Category: RF/IF and RFID; Stock 1: 10532; Pricing 1: 1=6.83, 101=6.20832, 1000=5.129 (EUR); Packaging: Cut Tape (CT); Topology: Absorptive; Circuit: SP4T; Features: -; Operating Temperature: -40°C ~ 85°C; Package / Case: 32-TFQFN Exposed Pad; Supplier Device Package: 32-LGA (5x5); ComponentLink1URL: http://www.psemi.com/pdf/datasheets/pe42540ds.pdf; ComponentLink1Description: http://www.psemi.com/pdf/datasheets/pe42540ds.pdf; Supplier Part Number 1: 1046-1111-1-ND
footprint PQFN50P500X500X101_HS-33L Peregrine (PQFN, 32-Leads, Body 5,00x5,00mm, Pitch 0,50mm, Thermal Pad 3,08x3,08mm, IPC High Density)
pins: 1 GND (power), 2 RF4, 3 GND (power), 4 GND (power), 5 GND (power), 6 GND (power), 7 RF2, 8 GND (power), 9 GND (power), 10 GND (power), 11 GND (power), 12 GND (power), 13 RFC, 14 GND (power), 15 GND (power), 16 GND (power), 17 GND (power), 18 RF1, 19 GND (power), 20 GND (power), 21 GND (power), 22 GND (power), 23 RF3, 24 GND (power), 25 GND (power), 26 GND (power), 27 VDD (power), 28 GND (power), 29 V1 (in), 30 V2 (in), 31 VssEXT (power), 32 GND (power), 33 GND (power)

## PE42553A-Z
designator U?
IC RF SWITCH SPDT 16QFN; Manufacturer: Peregrine Semiconductor; Manufacturer Part Number: PE42553A-Z; Frequency - Lower: 9kHz; Frequency - Upper: 8GHz; Isolation @ Frequency: 45dB @ 3GHz (typ); Insertion Loss @ Frequency: 0.85dB @ 3GHz; IIP3: 66dBm (typ); Impedance: 50 Ohm; Voltage - Supply: 2.3 V ~ 5.5 V; Supplier 1: Digi-Key; RoHS: RoHS Compliant; Category: RF/IF and RFID; Stock 1: 3042; Pricing 1: 1=6.77, 10=6.084, 25=5.5336, 100=5.0089, 250=4.58936, 500=4.19596, 1000=3.64525 (EUR); Packaging: Cut Tape (CT); Topology: -; Circuit: SPDT; P1dB: -; Features: -; Operating Temperature: -40°C ~ 85°C; RF Type: -; Package / Case: 16-VFQFN Exposed Pad; Supplier Device Package: 16-QFN (3x3); ComponentLink1URL: http://www.psemi.com/pdf/datasheets/pe42553ds.pdf; ComponentLink1Description: http://www.psemi.com/pdf/datasheets/pe42553ds.pdf; Supplier Part Number 1: 1046-1137-1-ND
footprint QFN50P300X300X85_HS-17L-Peregrine (QFN, 16-Leads, Body 3,00x3,00mm, Pitch 0,50mm, Thermal Pad 1,70x1,70mm, IPC High Density)
pins: 1 GND (power), 2 RF1, 3 GND (power), 4 GND (power), 5 GND (power), 6 GND (power), 7 RFC, 8 GND (power), 9 GND (power), 10 GND (power), 11 RF2, 12 GND (power), 13 VSS_EXT (power), 14 CTRL (in), 15 LS (in), 16 VDD (power), 17 GND (power)

## PE43205MLAA-Z
designator U?
IC RF DSA 2BIT 50 OHM 12-QFN; Manufacturer: Peregrine Semiconductor; Manufacturer Part Number: PE43205MLAA-Z; Supplier 1: Digi-Key; RoHS: RoHS Compliant; Category: RF/IF and RFID; Stock 1: 8834; Pricing 1: 1=1.99, 101=1.39149, 1000=0.92768 (EUR); Attenuation Value: *; Tolerance: *; Frequency Range: *; Power (Watts): *; Impedance: *; Package / Case: 12-WFQFN Exposed Pad; ComponentLink1URL: http://www.psemi.com/pdf/datasheets/pe43205ds.pdf; ComponentLink1Description: http://www.psemi.com/pdf/datasheets/pe43205ds.pdf; Supplier Part Number 1: 1046-1114-1-ND
footprint QFN50P300X300X80_HS-13L Peregrine (QFN, 12-Leads, Body 3,00x3,00mm, Pitch 0,50mm, Thermal Pad 1,15x1,15mm, IPC High Density)
pins: 1 GND (power), 2 RF1, 3 NC1, 4 NC1, 5 NC1, 6 NC1, 7 NC1, 8 RF2, 9 GND (power), 10 C2 (in), 11 C1 (in), 12 VDD (power), 13 GND (power)

## PE-0805CD2N8JTT
designator L?, comment 2.8nH
FIXED IND 2.8NH 600MA 60 MOHM; Manufacturer: Pulse Electronics Network; Manufacturer Part Number: PE-0805CD2N8JTT; Type: Wirewound; Material - Core: Ceramic; Tolerance: ±5%; Shielding: Unshielded; DC Resistance (DCR): 60 mOhm Max; Q @ Freq: 80 @ 1.5GHz; Frequency - Self Resonant: 6GHz; Supplier 1: Digi-Key; RoHS: RoHS Compliant; Category: Inductors, Coils, Chokes; Stock 1: 0; Pricing 1: 0=0 (EUR); Packaging: Tape & Reel (TR); Part Status: Active; Current - Saturation: -; Ratings: -; Operating Temperature: -40°C ~ 125°C; Mounting Type: Surface Mount; Package / Case: 0805 (2012 Metric); Supplier Device Package: 0805 (2012 Metric); Size / Dimension: 0.090" L x 0.066" W (2.29mm x 1.68mm); Height - Seated (Max): 0.062" (1.58mm); ComponentLink1URL: http://productfinder.pulseeng.com/products/datasheets/WC701.pdf; ComponentLink1Description: http://productfinder.pulseeng.com/products/datasheets/WC701.pdf; Supplier Part Number 1: PE-0805CD2N8JTT-ND
footprint 0805 Ind (Chip Capacitor, 2-Leads, Body 2,00x1,25mm, IPC Medium Density)
pins: 1, 2

## PGB1010402KR
designator D?
TVS DIODE 12VWM 250VC 0402; Manufacturer: Littelfuse Inc.; Manufacturer Part Number: PGB1010402KR; Type: Zener; Bidirectional Channels: 1; Voltage - Reverse Standoff (Typ): 12V; Voltage - Clamping (Max) @ Ipp: 250V (Typ); Power Line Protection: No; Clamping Voltage: 250 V; Brand: Littelfuse; Number of Channels: 1 Channel; Cd - Diode Capacitance: 0.04 pF; Operating Supply Voltage: 12 VDC; Supplier 1: Digi-Key; RoHS: RoHS Compliant; Category: Circuit Protection; Stock 1: 129259; Pricing 1: 1=0.59, 10=0.496, 25=0.4344, 100=0.3721, 250=0.32272, 500=0.27336, 1000=0.21074, 2500=0.19267, 5000=0.17943 (EUR); Packaging: Cut Tape (CT); Unidirectional Channels: -; Voltage - Breakdown (Min): -; Current - Peak Pulse (10/1000µs): -; Power - Peak Pulse: -; Applications: General Purpose; Capacitance @ Frequency: -; Operating Temperature: -65°C ~ 125°C (TJ); Mounting Type: Surface Mount; Package / Case: 0402 (1005 Metric); Supplier Device Package: 0402; ComponentLink1URL: http://www.littelfuse.com/data/en/data_sheets/littelfuse_pulseguard-esd_pgb1.pdf; ComponentLink1Description: http://www.littelfuse.com/data/en/data_sheets/littelfuse_pulseguard-esd_pgb1.pdf; Supplier 2: Mouser; Stock 2: 16343; Pricing 2: 1=0.588, 10=0.441, 100=0.277, 1000=0.208, 2500=0.177, 10000=0.165, 20000=0.157, 50000=0.156 (EUR); Package/Case: 0402 (1005 metric); Termination Style: SMD/SMT; Product Category: PulseGuard Suppressors; Standard Pack Qty: 10000; RoHS - Mouser: Y; Minimum Order Quantity: 1; Reeling: True; ComponentLink2URL: http://www.mouser.com/ds/2/240/Littelfuse_PulseGuard_PGB1_Datasheet.pdf-461684.pdf; ComponentLink2Description: http://www.mouser.com/ds/2/240/Littelfuse_PulseGuard_PGB1_Datasheet.pdf-461684.pdf; Supplier Part Number 1: F2862CT-ND; Supplier Part Number 2: 576-PGB1010402KR
footprint DIOC1005X04L (Chip Diode, 2-Leads, Body 0,99x0,51mm, IPC High Density)
pins: 1 A, 2

## PIC16F1829-I/SS
designator U?
8-bit Microcontrollers - MCU 14KB FL 1KBRAM 32MHz 18I/0 Enhanced Mid; Manufacturer: Microchip Technology; Manufacturer Part Number: PIC16F1829-I/SS; Program Memory Type: Flash; Data RAM Size: 1024 B; Data RAM Type: SRAM; Interface Type: I2C, SPI, USART; Number of I/Os: 18 I/O; Program Memory Size: 8 kB; Core: PIC; Data Bus Width: 8 bit; Number of Timers: 5 Timer; Operating Supply Voltage: 1.8 V to 5.5 V; Processor Series: PIC16; Connectivity: I²C, LIN, SPI, UART/USART; Peripherals: Brown-out Detect/Reset, POR, PWM, WDT; Number of I/O: 17; EEPROM Size: 256 x 8; RAM Size: 1K x 8; Voltage - Supply (Vcc/Vdd): 1.8 V ~ 5.5 V; Data Converters: A/D 12x10b; Oscillator Type: Internal; Supplier 1: Mouser; Supplier Part Number 1: 579-PIC16F1829-I/SS; RoHS: RoHS Compliant; Category: 8-bit Microcontrollers - MCU; Stock 1: 7524; Pricing 1: 1=1.51, 10=1.26, 25=1.16, 100=1.06 (EUR); Package/Case: SSOP-20; Packaging: Tube; Series: PIC16; Brand: Microchip Technology; Mounting Style: SMD/SMT; Maximum Clock Frequency: 32 MHz; Maximum Operating Temperature: + 85 C; Standard Pack Qty: 67; RoHS - Mouser: Y; Minimum Order Quantity: 1; Reeling: False; ComponentLink1URL: http://www.mouser.com/ds/2/268/41440A-50115.pdf; ComponentLink1Description: http://www.mouser.com/ds/2/268/41440A-50115.pdf; Supplier 2: Digi-Key; Supplier Part Number 2: PIC16F1829-I/SS-ND; Stock 2: 7203; Pricing 2: 1=1.54, 10=1.285, 25=1.1792, 100=1.0735 (EUR); Core Processor: PIC; Core Size: 8-Bit; Speed: 32MHz; Operating Temperature: -40°C ~ 85°C; Package / Case: 20-SSOP (0.209", 5.30mm Width); Supplier Device Package: 20-SSOP; ComponentLink2URL: http://www.microchip.com/mymicrochip/filehandler.aspx?ddocname=en550231; ComponentLink2Description: http://www.microchip.com/mymicrochip/filehandler.aspx?ddocname=en550231
footprint SOP65P780X200-20L (SOP, 20-Leads, Body 7,20x5,30mm, Pitch 0,65mm, IPC High Density)
pins: 1 VDD (power), 2 RA5 (io), 3 RA4 (io), 4 ~{MCLR}/VPP/RA3 (in), 5 RC5 (io), 6 RC4 (io), 7 RC3 (io), 8 RC6 (io), 9 RC7 (io), 10 RB7 (io), 11 RB6 (io), 12 RB5 (io), 13 RB4 (io), 14 RC2 (io), 15 RC1 (io), 16 RC0 (io), 17 RA2 (io), 18 RA1/PGC (io), 19 RA0/PGD (io), 20 VSS (io)

## PIC18F23K22-I/ML
designator U?
8-bit Microcontrollers - MCU 8KB Flash 768b RAM SERIAL EE IND; Manufacturer: Microchip Technology; Manufacturer Part Number: PIC18F23K22-I/ML; A/D Bit Size: 10 bit; A/D Channels Available: 19; Data RAM Size: 512 B; Data RAM Type: SRAM; Data ROM Size: 256 B; Data ROM Type: EEPROM; Interface Type: EUSART, I2C, SPI; Number of I/Os: 25 I/O; Core: PIC; Data Bus Width: 8 bit; Maximum Clock Frequency: 64 MHz; Number of Timers: 7 Timer; On-Chip ADC: Yes; On-Chip DAC: With DAC; Operating Supply Voltage: 2.3 V to 5.5 V; Processor Series: PIC18; Supply Voltage - Max: 5.5 V; Supply Voltage - Min: 1.8 V; Speed: 64MHz; Connectivity: I²C, SPI, UART/USART; Peripherals: Brown-out Detect/Reset, HLVD, POR, PWM, WDT; Number of I/O: 24; EEPROM Size: 256 x 8; RAM Size: 512 x 8; Voltage - Supply (Vcc/Vdd): 2.3 V ~ 5.5 V; Data Converters: A/D 19x10b; Oscillator Type: Internal; Supplier 1: Mouser; Supplier Part Number 1: 579-PIC18F23K22-I/ML; RoHS: RoHS Compliant; Category: 8-bit Microcontrollers - MCU; Stock 1: 1844; Pricing 1: 1=2.08, 10=1.73, 25=1.59, 100=1.44 (EUR); Package/Case: QFN-28; Packaging: Tube; Program Memory Type: Flash; Series: PIC18; Brand: Microchip Technology; Mounting Style: SMD/SMT; Program Memory Size: 8 kB; Maximum Operating Temperature: + 85 C; Minimum Operating Temperature: - 40 C; Standard Pack Qty: 61; RoHS - Mouser: Y; Minimum Order Quantity: 1; Reeling: False; ComponentLink1URL: http://www.mouser.com/ds/2/268/41412F-59170.pdf; ComponentLink1Description: http://www.mouser.com/ds/2/268/41412F-59170.pdf; Supplier 2: Digi-Key; Supplier Part Number 2: PIC18F23K22-I/ML-ND; Stock 2: 305; Pricing 2: 1=2.11, 10=1.76, 25=1.6188, 100=1.4606 (EUR); Core Processor: PIC; Core Size: 8-Bit; Operating Temperature: -40°C ~ 85°C; Package / Case: 28-VQFN Exposed Pad; Supplier Device Package: 28-QFN (6x6); ComponentLink2URL: http://www.microchip.com/mymicrochip/filehandler.aspx?ddocname=en547043; ComponentLink2Description: http://www.microchip.com/mymicrochip/filehandler.aspx?ddocname=en547043
footprint QFN65P600X600X100_HS-29N (QFN, 28-Leads, Body 6,00x6,00mm, Pitch 0,65mm, Thermal Pad 3,93x3,93mm, IPC Medium Density)
pins: 1 RA2/AN2/C2IN+/VREF-/DACOUT (io), 2 RA3/AN3/C1IN+/VREF+ (io), 3 RA4/C1OUT/SRQ/CCP5/T0CKI (io), 4 RA5/AN4/C2OUT/SRNQ/HLVDIN/~{SS1} (io), 5 VSS (power), 6 RA7/OSC1/CLKI (io), 7 RA6/OSC2/CLKO (io), 8 RC0/P2B/SOSCO/T1CKI/T3CKI/T3G (io), 9 RC1/CCP2/P2A/SOSCI (io), 10 RC2/AN14/CTPLS/CCP1/P1A/T5CKI (io), 11 RC3/AN15/SCK1/SCL1 (io), 12 RC4/AN16/SDI1/SDA1 (io), 13 RC5/AN17/SDO1 (io), 14 RC6/AN18/CCP3/P3A/TX1/CK1 (io), 15 RC7/AN19/P3B/RX1/DT1 (io), 16 VSS (power), 17 VDD (power), 18 RB0/AN12/SRI/CCP4/FLT0/~{SS2}/INT0 (io), 19 RB1/AN10/C12IN3-/P1C/SCK2/SCL2/INT1 (io), 20 RB2/AN8/CTED1/P1B/SDI2/SDA2/INT2 (io), 21 RB3/AN9/C12IN2-/CTED2/CCP2/P2A/SDO2 (io), 22 RB4/AN11/P1D/T5G (io), 23 RB5/AN13/CCP3/P3A/P2B/T1G/T3CKI (io), 24 RB6/PGC/TX2/CK2 (io), 25 RB7/PGD/RX2/DT2 (io), 26 ~{MCLR}/VPP/RE3 (in), 27 RA0/AN0/C12IN0- (in), 28 RA1/AN1/C12IN1- (in), 29 EP (power)
text: Pull-up/IOC

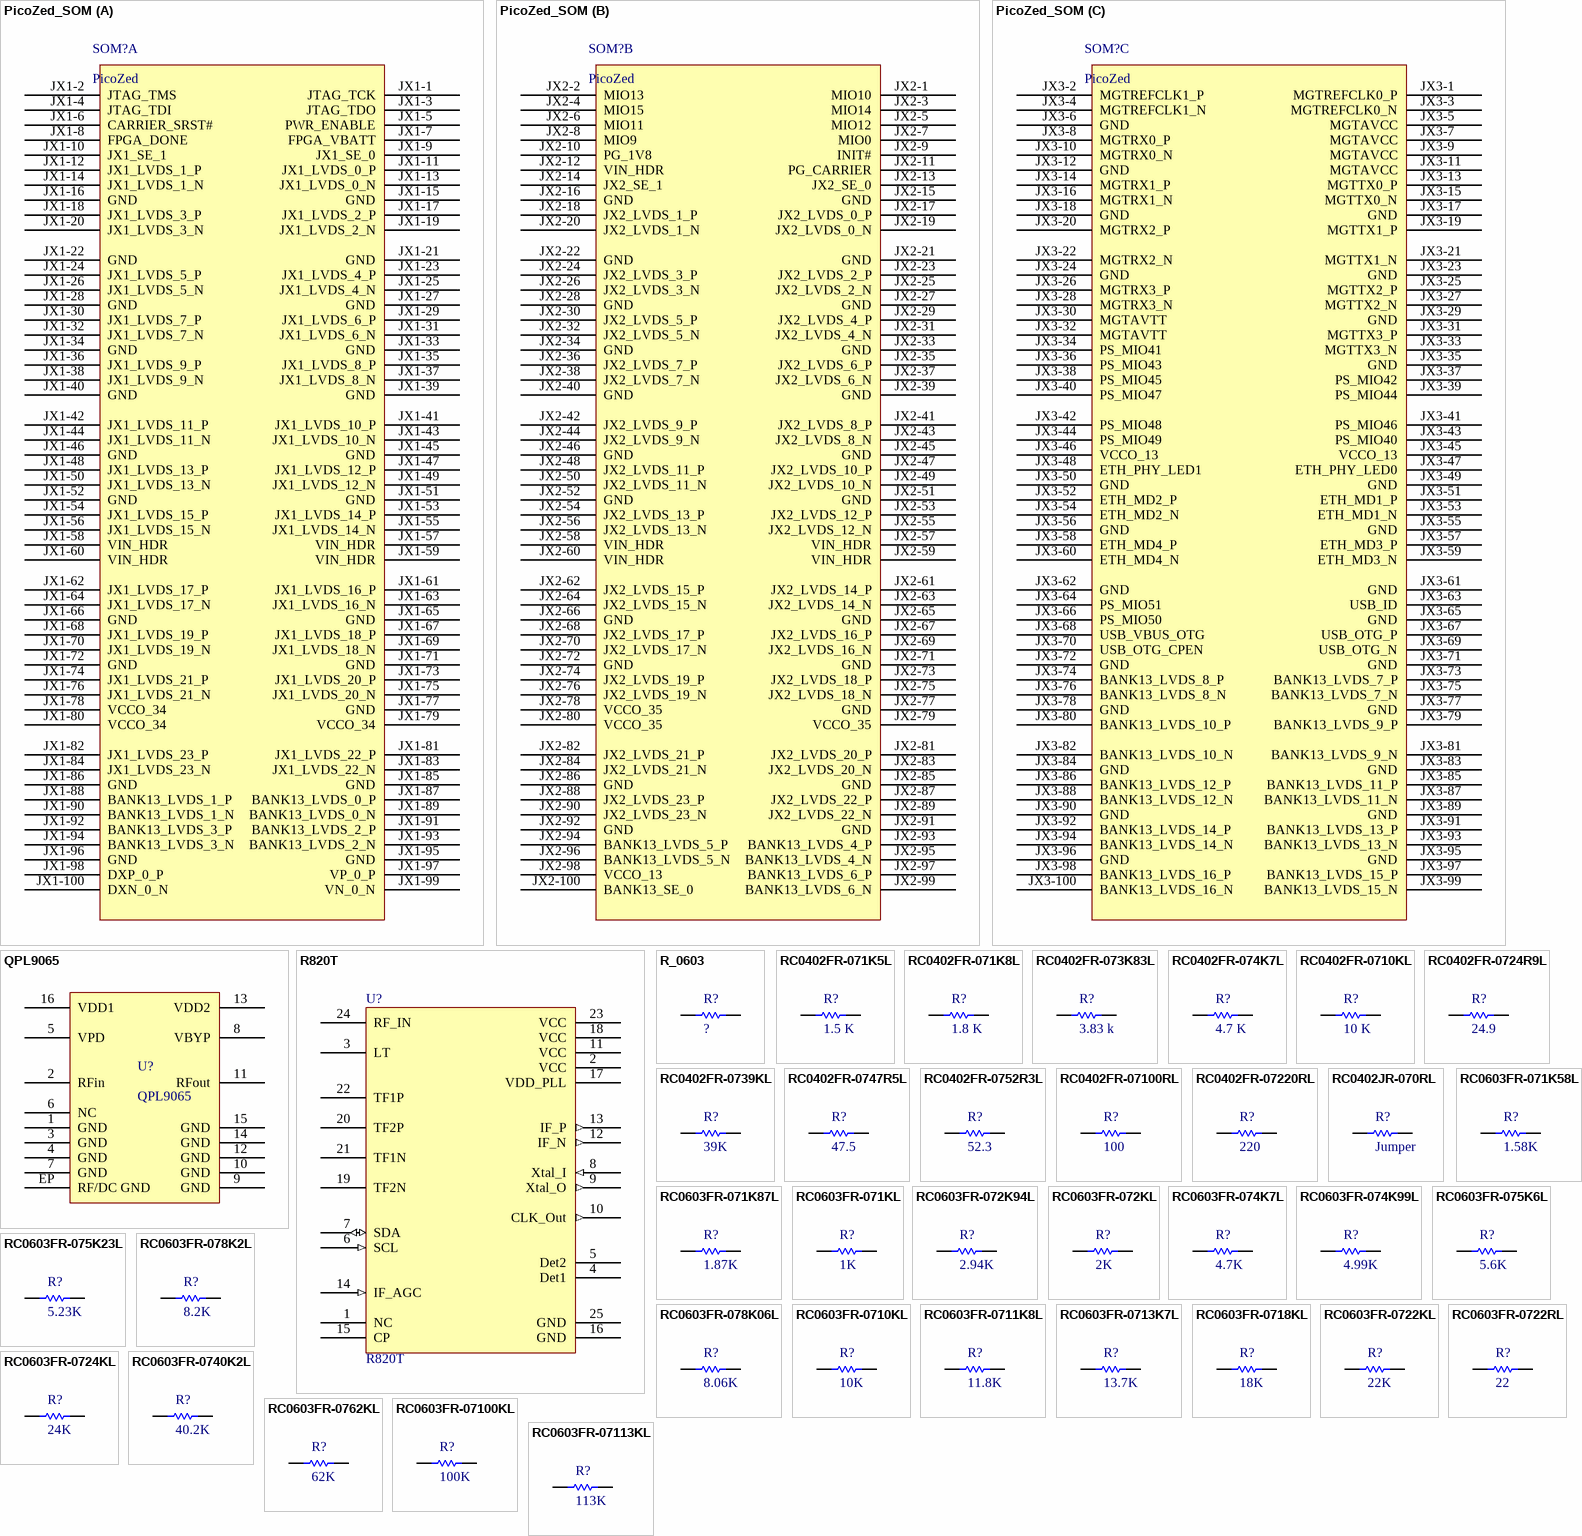
[diagram p10: symbols PicoZed_SOM to RC0603FR-07113KL]

## PicoZed_SOM
designator SOM?, comment PicoZed
PicoZed SOM Carrier Footprint
footprint PicoZedSOM (PicoZed SOM Footprint)
part A pins: JX1-1 JTAG_TCK, JX1-2 JTAG_TMS, JX1-3 JTAG_TDO, JX1-4 JTAG_TDI, JX1-5 PWR_ENABLE, JX1-6 CARRIER_SRST#, JX1-7 FPGA_VBATT, JX1-8 FPGA_DONE, JX1-9 JX1_SE_0, JX1-10 JX1_SE_1, JX1-11 JX1_LVDS_0_P, JX1-12 JX1_LVDS_1_P, JX1-13 JX1_LVDS_0_N, JX1-14 JX1_LVDS_1_N, JX1-15 GND, JX1-16 GND, JX1-17 JX1_LVDS_2_P, JX1-18 JX1_LVDS_3_P, JX1-19 JX1_LVDS_2_N, JX1-20 JX1_LVDS_3_N, JX1-21 GND, JX1-22 GND, JX1-23 JX1_LVDS_4_P, JX1-24 JX1_LVDS_5_P, JX1-25 JX1_LVDS_4_N, JX1-26 JX1_LVDS_5_N, JX1-27 GND, JX1-28 GND, JX1-29 JX1_LVDS_6_P, JX1-30 JX1_LVDS_7_P, JX1-31 JX1_LVDS_6_N, JX1-32 JX1_LVDS_7_N, JX1-33 GND, JX1-34 GND, JX1-35 JX1_LVDS_8_P, JX1-36 JX1_LVDS_9_P, JX1-37 JX1_LVDS_8_N, JX1-38 JX1_LVDS_9_N, JX1-39 GND, JX1-40 GND, JX1-41 JX1_LVDS_10_P, JX1-42 JX1_LVDS_11_P, JX1-43 JX1_LVDS_10_N, JX1-44 JX1_LVDS_11_N, JX1-45 GND, JX1-46 GND, JX1-47 JX1_LVDS_12_P, JX1-48 JX1_LVDS_13_P, JX1-49 JX1_LVDS_12_N, JX1-50 JX1_LVDS_13_N, JX1-51 GND, JX1-52 GND, JX1-53 JX1_LVDS_14_P, JX1-54 JX1_LVDS_15_P, JX1-55 JX1_LVDS_14_N, JX1-56 JX1_LVDS_15_N, JX1-57 VIN_HDR, JX1-58 VIN_HDR, JX1-59 VIN_HDR, JX1-60 VIN_HDR, JX1-61 JX1_LVDS_16_P, JX1-62 JX1_LVDS_17_P, JX1-63 JX1_LVDS_16_N, JX1-64 JX1_LVDS_17_N, JX1-65 GND, JX1-66 GND, JX1-67 JX1_LVDS_18_P, JX1-68 JX1_LVDS_19_P, JX1-69 JX1_LVDS_18_N, JX1-70 JX1_LVDS_19_N, JX1-71 GND, JX1-72 GND, JX1-73 JX1_LVDS_20_P, JX1-74 JX1_LVDS_21_P, JX1-75 JX1_LVDS_20_N, JX1-76 JX1_LVDS_21_N, JX1-77 GND, JX1-78 VCCO_34, JX1-79 VCCO_34, JX1-80 VCCO_34, JX1-81 JX1_LVDS_22_P, JX1-82 JX1_LVDS_23_P, JX1-83 JX1_LVDS_22_N, JX1-84 JX1_LVDS_23_N, JX1-85 GND, JX1-86 GND, JX1-87 BANK13_LVDS_0_P, JX1-88 BANK13_LVDS_1_P, JX1-89 BANK13_LVDS_0_N, JX1-90 BANK13_LVDS_1_N, JX1-91 BANK13_LVDS_2_P, JX1-92 BANK13_LVDS_3_P, JX1-93 BANK13_LVDS_2_N, JX1-94 BANK13_LVDS_3_N, JX1-95 GND, JX1-96 GND, JX1-97 VP_0_P, JX1-98 DXP_0_P, JX1-99 VN_0_N, JX1-100 DXN_0_N
part B pins: JX2-1 MIO10, JX2-2 MIO13, JX2-3 MIO14, JX2-4 MIO15, JX2-5 MIO12, JX2-6 MIO11, JX2-7 MIO0, JX2-8 MIO9, JX2-9 INIT#, JX2-10 PG_1V8, JX2-11 PG_CARRIER, JX2-12 VIN_HDR, JX2-13 JX2_SE_0, JX2-14 JX2_SE_1, JX2-15 GND, JX2-16 GND, JX2-17 JX2_LVDS_0_P, JX2-18 JX2_LVDS_1_P, JX2-19 JX2_LVDS_0_N, JX2-20 JX2_LVDS_1_N, JX2-21 GND, JX2-22 GND, JX2-23 JX2_LVDS_2_P, JX2-24 JX2_LVDS_3_P, JX2-25 JX2_LVDS_2_N, JX2-26 JX2_LVDS_3_N, JX2-27 GND, JX2-28 GND, JX2-29 JX2_LVDS_4_P, JX2-30 JX2_LVDS_5_P, JX2-31 JX2_LVDS_4_N, JX2-32 JX2_LVDS_5_N, JX2-33 GND, JX2-34 GND, JX2-35 JX2_LVDS_6_P, JX2-36 JX2_LVDS_7_P, JX2-37 JX2_LVDS_6_N, JX2-38 JX2_LVDS_7_N, JX2-39 GND, JX2-40 GND, JX2-41 JX2_LVDS_8_P, JX2-42 JX2_LVDS_9_P, JX2-43 JX2_LVDS_8_N, JX2-44 JX2_LVDS_9_N, JX2-45 GND, JX2-46 GND, JX2-47 JX2_LVDS_10_P, JX2-48 JX2_LVDS_11_P, JX2-49 JX2_LVDS_10_N, JX2-50 JX2_LVDS_11_N, JX2-51 GND, JX2-52 GND, JX2-53 JX2_LVDS_12_P, JX2-54 JX2_LVDS_13_P, JX2-55 JX2_LVDS_12_N, JX2-56 JX2_LVDS_13_N, JX2-57 VIN_HDR, JX2-58 VIN_HDR, JX2-59 VIN_HDR, JX2-60 VIN_HDR, JX2-61 JX2_LVDS_14_P, JX2-62 JX2_LVDS_15_P, JX2-63 JX2_LVDS_14_N, JX2-64 JX2_LVDS_15_N, JX2-65 GND, JX2-66 GND, JX2-67 JX2_LVDS_16_P, JX2-68 JX2_LVDS_17_P, JX2-69 JX2_LVDS_16_N, JX2-70 JX2_LVDS_17_N, JX2-71 GND, JX2-72 GND, JX2-73 JX2_LVDS_18_P, JX2-74 JX2_LVDS_19_P, JX2-75 JX2_LVDS_18_N, JX2-76 JX2_LVDS_19_N, JX2-77 GND, JX2-78 VCCO_35, JX2-79 VCCO_35, JX2-80 VCCO_35, JX2-81 JX2_LVDS_20_P, JX2-82 JX2_LVDS_21_P, JX2-83 JX2_LVDS_20_N, JX2-84 JX2_LVDS_21_N, JX2-85 GND, JX2-86 GND, JX2-87 JX2_LVDS_22_P, JX2-88 JX2_LVDS_23_P, JX2-89 JX2_LVDS_22_N, JX2-90 JX2_LVDS_23_N, JX2-91 GND, JX2-92 GND, JX2-93 BANK13_LVDS_4_P, JX2-94 BANK13_LVDS_5_P, JX2-95 BANK13_LVDS_4_N, JX2-96 BANK13_LVDS_5_N, JX2-97 BANK13_LVDS_6_P, JX2-98 VCCO_13, JX2-99 BANK13_LVDS_6_N, JX2-100 BANK13_SE_0
part C pins: JX3-1 MGTREFCLK0_P, JX3-2 MGTREFCLK1_P, JX3-3 MGTREFCLK0_N, JX3-4 MGTREFCLK1_N, JX3-5 MGTAVCC, JX3-6 GND, JX3-7 MGTAVCC, JX3-8 MGTRX0_P, JX3-9 MGTAVCC, JX3-10 MGTRX0_N, JX3-11 MGTAVCC, JX3-12 GND, JX3-13 MGTTX0_P, JX3-14 MGTRX1_P, JX3-15 MGTTX0_N, JX3-16 MGTRX1_N, JX3-17 GND, JX3-18 GND, JX3-19 MGTTX1_P, JX3-20 MGTRX2_P, JX3-21 MGTTX1_N, JX3-22 MGTRX2_N, JX3-23 GND, JX3-24 GND, JX3-25 MGTTX2_P, JX3-26 MGTRX3_P, JX3-27 MGTTX2_N, JX3-28 MGTRX3_N, JX3-29 GND, JX3-30 MGTAVTT, JX3-31 MGTTX3_P, JX3-32 MGTAVTT, JX3-33 MGTTX3_N, JX3-34 PS_MIO41, JX3-35 GND, JX3-36 PS_MIO43, JX3-37 PS_MIO42, JX3-38 PS_MIO45, JX3-39 PS_MIO44, JX3-40 PS_MIO47, JX3-41 PS_MIO46, JX3-42 PS_MIO48, JX3-43 PS_MIO40, JX3-44 PS_MIO49, JX3-45 VCCO_13, JX3-46 VCCO_13, JX3-47 ETH_PHY_LED0, JX3-48 ETH_PHY_LED1, JX3-49 GND, JX3-50 GND, JX3-51 ETH_MD1_P, JX3-52 ETH_MD2_P, JX3-53 ETH_MD1_N, JX3-54 ETH_MD2_N, JX3-55 GND, JX3-56 GND, JX3-57 ETH_MD3_P, JX3-58 ETH_MD4_P, JX3-59 ETH_MD3_N, JX3-60 ETH_MD4_N, JX3-61 GND, JX3-62 GND, JX3-63 USB_ID, JX3-64 PS_MIO51, JX3-65 GND, JX3-66 PS_MIO50, JX3-67 USB_OTG_P, JX3-68 USB_VBUS_OTG, JX3-69 USB_OTG_N, JX3-70 USB_OTG_CPEN, JX3-71 GND, JX3-72 GND, JX3-73 BANK13_LVDS_7_P, JX3-74 BANK13_LVDS_8_P, JX3-75 BANK13_LVDS_7_N, JX3-76 BANK13_LVDS_8_N, JX3-77 GND, JX3-78 GND, JX3-79 BANK13_LVDS_9_P, JX3-80 BANK13_LVDS_10_P, JX3-81 BANK13_LVDS_9_N, JX3-82 BANK13_LVDS_10_N, JX3-83 GND, JX3-84 GND, JX3-85 BANK13_LVDS_11_P, JX3-86 BANK13_LVDS_12_P, JX3-87 BANK13_LVDS_11_N, JX3-88 BANK13_LVDS_12_N, JX3-89 GND, JX3-90 GND, JX3-91 BANK13_LVDS_13_P, JX3-92 BANK13_LVDS_14_P, JX3-93 BANK13_LVDS_13_N, JX3-94 BANK13_LVDS_14_N, JX3-95 GND, JX3-96 GND, JX3-97 BANK13_LVDS_15_P, JX3-98 BANK13_LVDS_16_P, JX3-99 BANK13_LVDS_15_N, JX3-100 BANK13_LVDS_16_N

## QPL9065
designator U?
Manufacturer Part Number: 772-QPL9065TR13; Manufacturer: COILCRAFT; Inductancia: 18; Corriente DC Nominal: 700; Encapsulado del Inductor de Alta Frecuencia: 0603 [Métrica 1608]; Construcción del Inductor: Bobinado; Resistencia DC Máxima: 0.17; Tolerancia de Inductancia: ± 5%; Frecuencia Autorresonante Mín.: 3.1; Empaquetado: Cinta Cortada; Sustancia Extremadamente Preocupante (SVHC): No SVHC (12-Jan-2017); Estándar de Certificación para Automoción: AEC-Q200; Supplier 1: Farnell; RoHS: Y-EX; Stock 1: 2020; Pricing 1: 1=0,784, 200=0,586, 500=0,437, 1000=0,298 (EUR); Rango de Producto: Serie 0603; Encapsulado del Inductor: 0603 [Métrica 1608]; ComponentLink1URL: http://www.farnell.com/datasheets/1681877.pdf; ComponentLink1Description: http://www.farnell.com/datasheets/1681877.pdf; Supplier Part Number 1: 2285991
footprint QFN50P350X350X86_HS-17N-qorvo (QFN, 16-Leads, Body 3,50x3,50mm, Pitch 0,50mm, Thermal Pad 2,20x2,20mm, IPC Medium Density)
pins: 1 GND, 2 RFin, 3 GND, 4 GND, 5 VPD, 6 NC, 7 GND, 8 VBYP, 9 GND, 10 GND, 11 RFout, 12 GND, 13 VDD2, 14 GND, 15 GND, 16 VDD1, EP RF/DC GND

## R820T
designator U?
Rafael Micro R820T Silicon TV tuner
footprint QFN50P400X400X90_HS-25L RAFAEL
pins: 1 NC, 2 VCC (power), 3 LT, 4 Det1, 5 Det2, 6 SCL (in), 7 SDA (io), 8 Xtal_I (in), 9 Xtal_O (out), 10 CLK_Out (out), 11 VCC (power), 12 IF_N (out), 13 IF_P (out), 14 IF_AGC (in), 15 CP, 16 GND (power), 17 VDD_PLL (power), 18 VCC (power), 19 TF2N, 20 TF2P, 21 TF1N, 22 TF1P, 23 VCC (power), 24 RF_IN, 25 GND (power)

## R_0603
designator R?, comment ?
SMD Resistor, 1%, 0.1W, 0603; Tolerance: 1; Power Rating: 100; Mount: Surface Mount; Case/Package: 0603; Pins: 2; Case Code (Imperial): 0603; Case Code (Metric): 1608; Termination: SMD; Length: 1.6; Height: 0.45; Width: 0.8; Depth: 0.8
footprint 0603 Res (Chip Resistor, Body 1.6x0.8mm, IPC High Density)
pins: 1, 2